# Altium schematic symbol library TPS54531.SchLib: 1 symbol
Pins are listed as number, name and electrical type; pins without a type are passive.

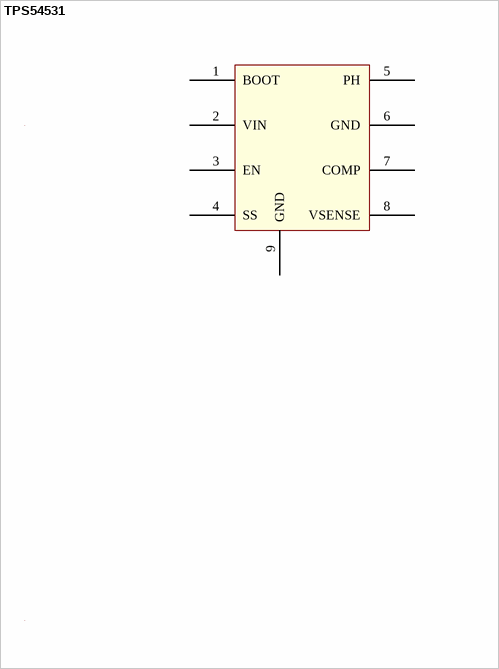
[diagram p0: symbol TPS54531]

## TPS54531
designator U?
pins: 1 BOOT, 2 VIN, 3 EN, 4 SS, 5 PH, 6 GND, 7 COMP, 8 VSENSE, 9 GND